# EAGLE library part AVISARO20_BASE (library hsk_2012)
AVISARO 2.0 BASE-Module ca. (37 x 32)mm, 24-pin, 1300 mil Source: www.avisaro.com Author: Dipl.-Ing. FH Rainer Bayer HHN Hochschule Heilbronn, rainer.bayer@hs-heilbronn.de Ingenieurbüro ing-rb, mail@ing-rb.de
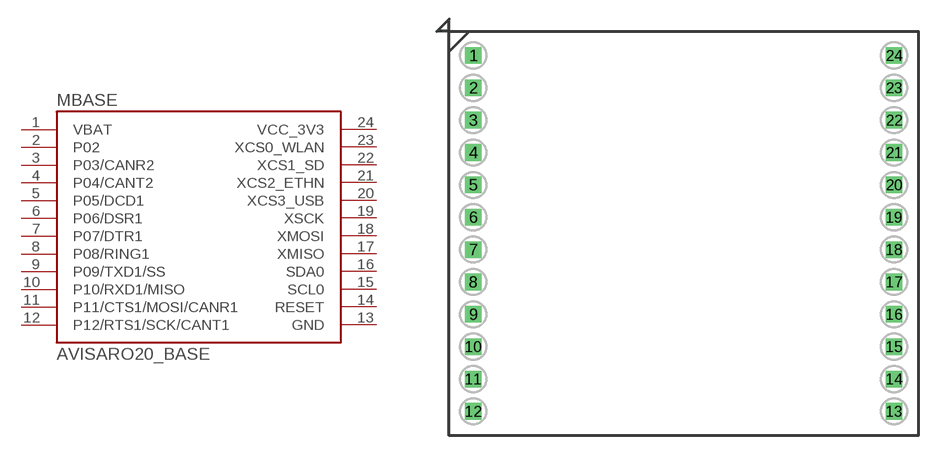
[diagram p21: symbol with the pads of AVISARO20_BASE; footprint AVISARO20_BASE]

Designator prefix MBASE

## AVISARO20_BASE  [AVISARO20_BASE]
1  VBAT  pwr
2  P02
3  P03/CANR2
4  P04/CANT2
5  P05/DCD1
6  P06/DSR1
7  P07/DTR1
8  P08/RING1
9  P09/TXD1/SS
10  P10/RXD1/MISO
11  P11/CTS1/MOSI/CANR1
12  P12/RTS1/SCK/CANT1
13  GND  pwr
14  RESET
15  SCL0
16  SDA0
17  XMISO
18  XMOSI
19  XSCK
20  XCS3_USB
21  XCS2_ETHN
22  XCS1_SD
23  XCS0_WLAN
24  VCC_3V3  pwr

## Footprint AVISARO20_BASE (pad centres in mm)
AVISARO 2.0 BASE-Module
drill 0.8 square: 1 -16.51,13.97; 2 -16.51,11.43; 3 -16.51,8.89; 4 -16.51,6.35; 5 -16.51,3.81; 6 -16.51,1.27; 7 -16.51,-1.27; 8 -16.51,-3.81; 9 -16.51,-6.35; 10 -16.51,-8.89; 11 -16.51,-11.43; 12 -16.51,-13.97; 13 16.51,-13.97; 14 16.51,-11.43; 15 16.51,-8.89; 16 16.51,-6.35; 17 16.51,-3.81; 18 16.51,-1.27; 19 16.51,1.27; 20 16.51,3.81; 21 16.51,6.35; 22 16.51,8.89; 23 16.51,11.43; 24 16.51,13.97